# Altium schematic symbol library Power_Switch.SchLib: 1 symbol
Pins are listed as number, name and electrical type; pins without a type are passive.

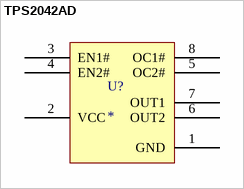
[diagram p0: symbol TPS2042AD]

## TPS2042AD
designator U?
Digikey Part Number: 296-3395-5-ND
footprint SOIC127P600-8N
pins: 1 GND, 2 VCC, 3 EN1#, 4 EN2#, 5 OC2#, 6 OUT2, 7 OUT1, 8 OC1#